# EAGLE library part AS-ITM-00361 (library tinycircuits)
HALL SENSOR LINEAR I2C 8TSSOP
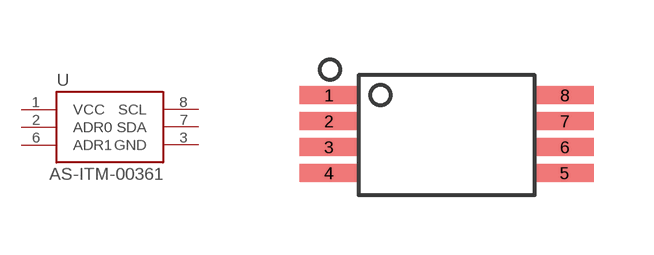
[diagram p143: symbol with the pads of TSSOP(8); footprint TSSOP(8)]

Designator prefix U

## AS-ITM-00361 (PARTNO: AS-ITM-00361; VALUE: A1454KLETR-4F)  [TSSOP(8)]
1  VCC
2  ADR0
3  GND
6  ADR1
7  SDA
8  SCL

## Footprint TSSOP(8) (pad centres in mm)
smd 1.45 x 0.45: 1 -3,1; 2 -3,0.35; 3 -3,-0.3; 4 -3,-0.95; 5 2.9,-0.95; 6 2.9,-0.3; 7 2.9,0.35; 8 2.9,1